# Altium footprint library Diodes.PcbLib: 3 footprints
Each footprint in its own frame and in the unit in brackets; x right, y up, seen from the top. Pads: shape width x height; smd on the part's side, far side on the other; paste and mask are expansions set on the pad; w line width, h text height; cw(c..) or ccw(c..) is an arc to the next point about the centre after c.
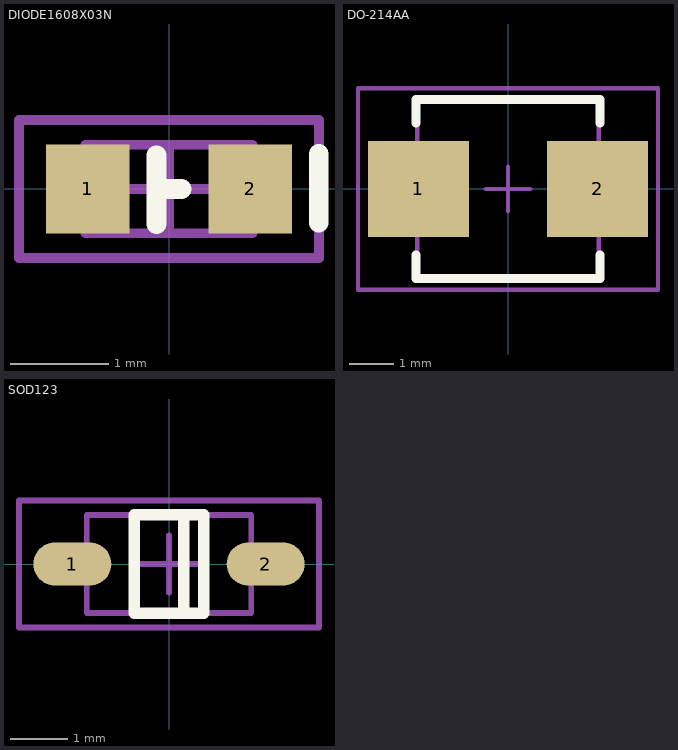
[diagram p0: the footprints below, top view; thin cyan lines are the x and y axes]

## DIODE1608X03N [mm] "Chip Diode, 2-Leads, Body 1.6x0.8mm, IPC Medium Density, 0603, green"
height 0.35
pads (2):
  rect 0.85x0.9 smd: 1(-0.825,0) 2(0.825,0)
Top Overlay:
  lines w0.2: -0.127,-0.356 -0.127,0.344 ; -0.127,0 0.127,0 ; 1.524,-0.344 1.524,0.356
Mechanical 13:
  lines w0.1: -0.85,-0.45 -0.85,0.45 0.85,0.45 0.85,-0.45 -0.85,-0.45
Mechanical 15:
  lines w0.1: -0.45,0 0.45,0 ; 0,-0.45 0,0.45 ; -1.525,-0.7 -1.525,0.7 1.525,0.7 1.525,-0.7 -1.525,-0.7
3D body: height 0.6, standoff 0, extent -0.81,-0.4 0.81,0.4

## DO-214AA [mm] "Molded TVS, 2-Leads, Body 4.1x3.6mm, IPC Medium Density"
height 2.45
pads (2):
  rect 2.25x2.15 smd: 1(-2,0) 2(2,0)
Top Overlay:
  lines w0.2: -2.05,-1.475 -2.05,-2 2.05,-2 2.05,-1.475 ; -2.05,1.475 -2.05,2 2.05,2 2.05,1.475
Mechanical 13:
  lines w0.1: -2.03,-1.975 -2.03,1.975 2.03,1.975 2.03,-1.975 -2.03,-1.975
Mechanical 15:
  lines w0.1: -0.5,0 0.5,0 ; 0,-0.5 0,0.5 ; -3.35,-2.25 -3.35,2.25 3.35,2.25 3.35,-2.25 -3.35,-2.25
3D body: height 2.25, standoff -0.05, extent -2.7,-1.8 2.7,1.8

## SOD123 [mm] "SOIC, 2-Leads, Body 1.7x2.8mm (max), Pitch 1.27mm, IPC Medium Density"
height 1.35
pads (2):
  oval 1.35x0.75 smd: 1(-1.675,0) 2(1.675,0)
Top Overlay:
  lines w0.101: 0.254,-0.762 0.254,0
  lines w0.2: -0.6,-0.85 -0.6,0.85 0.6,0.85 0.6,-0.85 -0.6,-0.85
  lines w0.202: 0.254,-0.762 0.254,0.85
Mechanical 13:
  lines w0.1: -1.425,-0.85 -1.425,0.85 1.425,0.85 1.425,-0.85 -1.425,-0.85
Mechanical 15:
  lines w0.1: -0.5,0 0.5,0 ; 0,-0.5 0,0.5 ; -2.6,-1.1 -2.6,1.1 2.6,1.1 2.6,-1.1 -2.6,-1.1
3D body: height 1.18, standoff 0, extent -1.95,-0.9 1.95,0.9